# Altium schematic symbol library XTAL,12MHz,10pF,SMD.Schlib: 1 symbol
Pins are listed as number, name and electrical type; pins without a type are passive.

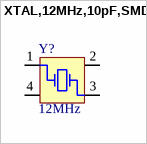
[diagram p0: symbol XTAL,12MHz,10pF,SMD]

## XTAL,12MHz,10pF,SMD
designator Y?, comment 12MHz
CRYSTAL 12.0000MHZ 10PF SMD
pins: 1 OSC1, 2 GND, 3 OSC2, 4 GND